# Altium schematic symbol library AP63203.SchLib: 1 symbol
Pins are listed as number, name and electrical type; pins without a type are passive.

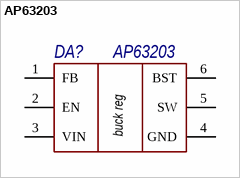
[diagram p0: symbol AP63203]

## AP63203
designator DA?
pins: 1 FB, 2 EN, 3 VIN, 4 GND, 5 SW, 6 BST
text: buck reg